# EAGLE library part ESP32-PICO-KIT (library ESP32-PICO-KIT)
Esp32 Wifi Bluetooth Eval Board Check prices <https://pricing.snapeda.com/parts/ESP32-PICO-KIT/Espressif%20Systems/view-part?ref=eda>
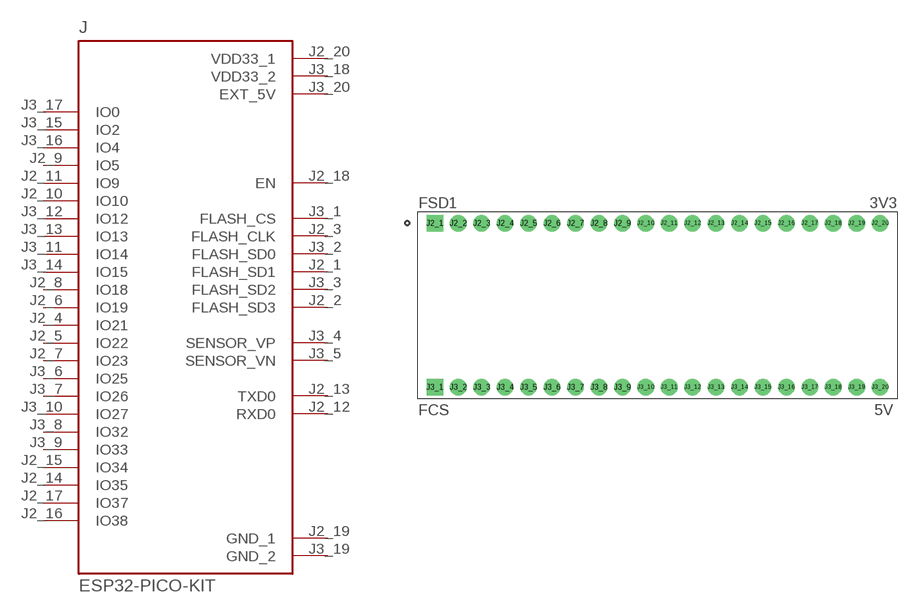
[diagram p0: symbol with the pads of XCVR_ESP32-PICO-KIT; footprint XCVR_ESP32-PICO-KIT]

Designator prefix J

## ESP32-PICO-KIT (Availability: In Stock; Description: ESP32-PICO-D4 - Transceiver; 802.11 b/g/n (Wi-Fi, WiFi, WLAN), Bluetooth® Smart Ready 4.x Dual Mode Evaluation Board; MF: Espressif Systems; MP: ESP32-PICO-KIT; Package: None; Price: None; Purchase-URL: https://pricing.snapeda.com/search/part/ESP32-PICO-KIT/?ref=eda)  [XCVR_ESP32-PICO-KIT]
J2_1  FLASH_SD1
J2_2  FLASH_SD3
J2_3  FLASH_CLK
J2_4  IO21
J2_5  IO22
J2_6  IO19
J2_7  IO23
J2_8  IO18
J2_9  IO5
J2_10  IO10
J2_11  IO9
J2_12  RXD0
J2_13  TXD0
J2_14  IO35  in
J2_15  IO34  in
J2_16  IO38  in
J2_17  IO37  in
J2_18  EN  in
J2_19  GND_1  pwr
J2_20  VDD33_1  pwr
J3_1  FLASH_CS
J3_2  FLASH_SD0
J3_3  FLASH_SD2
J3_4  SENSOR_VP  in
J3_5  SENSOR_VN  in
J3_6  IO25
J3_7  IO26
J3_8  IO32
J3_9  IO33
J3_10  IO27
J3_11  IO14
J3_12  IO12
J3_13  IO13
J3_14  IO15
J3_15  IO2
J3_16  IO4
J3_17  IO0
J3_18  VDD33_2  pwr
J3_19  GND_2  pwr
J3_20  EXT_5V  pwr

## Footprint XCVR_ESP32-PICO-KIT (pad centres in mm)
drill 1.2 square: J2_1 -24.13,8.89; J3_1 -24.13,-8.89
drill 1.2: J2_2 -21.59,8.89; J2_3 -19.05,8.89; J2_4 -16.51,8.89; J2_5 -13.97,8.89; J2_6 -11.43,8.89; J2_7 -8.89,8.89; J2_8 -6.35,8.89; J2_9 -3.81,8.89; J2_10 -1.27,8.89; J2_11 1.27,8.89; J2_12 3.81,8.89; J2_13 6.35,8.89; J2_14 8.89,8.89; J2_15 11.43,8.89; J2_16 13.97,8.89; J2_17 16.51,8.89; J2_18 19.05,8.89; J2_19 21.59,8.89; J2_20 24.13,8.89; J3_2 -21.59,-8.89; J3_3 -19.05,-8.89; J3_4 -16.51,-8.89; J3_5 -13.97,-8.89; J3_6 -11.43,-8.89; J3_7 -8.89,-8.89; J3_8 -6.35,-8.89; J3_9 -3.81,-8.89; J3_10 -1.27,-8.89; J3_11 1.27,-8.89; J3_12 3.81,-8.89; J3_13 6.35,-8.89; J3_14 8.89,-8.89; J3_15 11.43,-8.89; J3_16 13.97,-8.89; J3_17 16.51,-8.89; J3_18 19.05,-8.89; J3_19 21.59,-8.89; J3_20 24.13,-8.89